# Altium footprint library SuperKnobLite.PcbLib: 29 footprints (part 1 of 2)
Each footprint in its own frame and in the unit in brackets; x right, y up, seen from the top. Pads: shape width x height; smd on the part's side, far side on the other; paste and mask are expansions set on the pad; w line width, h text height; cw(c..) or ccw(c..) is an arc to the next point about the centre after c.
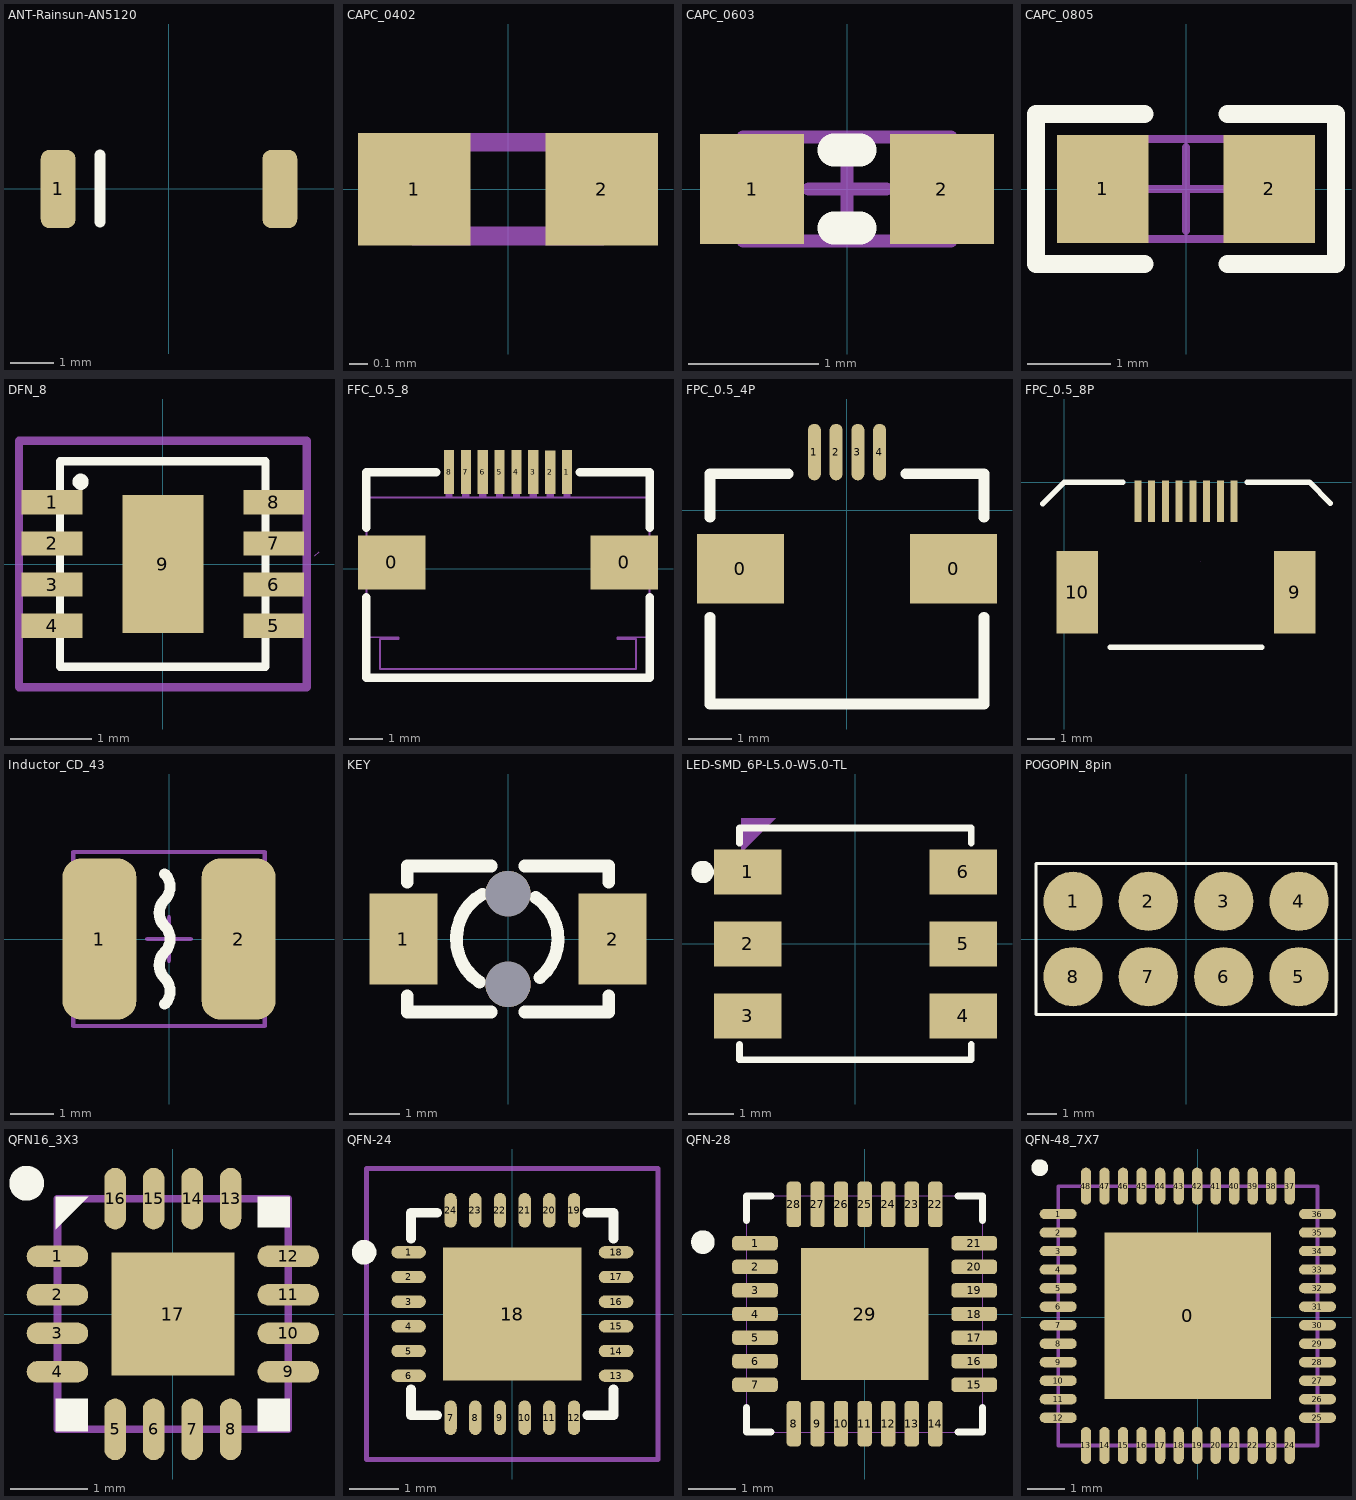
[diagram p0: the footprints below, top view; thin cyan lines are the x and y axes]

## ANT-Rainsun-AN5120 [mm] "选择焊盘"
height 4.3
pads (2):
  rrect50% 0.8x1.8 smd: 1(-2.54,0) ""(2.563,0)
Top Overlay:
  lines w0.254: -1.575,-0.762 -1.575,0.787
3D body "123.stp": height 1.32, standoff -0.01, extent -2.573,-0.911 2.542,0.935

## CAPC_0402 [mm]
pads (2):
  rect 0.6x0.6 smd mask+0.051: 1(-0.5,0) 2(0.5,0)
Mechanical 15:
  lines w0.1: -0.5,-0.25 0.5,-0.25 0.5,0.25 -0.5,0.25 -0.5,-0.25
3D body "CAPC1005(0402).STEP": height 0.5, standoff 0, extent -0.5,-0.25 0.5,0.25

## CAPC_0603 [mm]
pads (2):
  rect 0.8x0.85 smd: 1(-0.73,0) 2(0.73,0)
Top Overlay:
  lines w0.254: -0.1,-0.3 0.1,-0.3 ; -0.1,0.3 0.1,0.3
Mechanical 15:
  lines w0.1: -0.297,0 0.303,0 ; 0,-0.3 0,0.3 ; -0.8,-0.4 0.8,-0.4 0.8,0.4 -0.8,0.4 -0.8,-0.4
3D body "CAPC1608(0603).STEP": height 0.6, standoff 0, extent -0.8,-0.4 0.8,0.4

## CAPC_0805 [mm]
pads (2):
  rect 1.1x1.3 smd: 1(-1,0) 2(1,0)
Top Overlay:
  lines w0.22: -0.5,-0.9 -1.8,-0.9 -1.8,0.9 -0.5,0.9 ; 0.5,-0.9 1.8,-0.9 1.8,0.9 0.5,0.9
Mechanical 15:
  lines w0.1: -0.5,0 0.5,0 ; 0,-0.5 0,0.5 ; -1,-0.6 -1,0.6 1,0.6 1,-0.6 -1,-0.6
3D body "CAPC2012(0805).STEP": height 0.95, standoff 0, extent -1,-0.6 1,0.6

## DFN_8 [mm]
pads (9):
  rect 0.75x0.3 smd: 1(-1.37,0.762) 2(-1.37,0.254) 3(-1.37,-0.254) 4(-1.37,-0.762) 5(1.37,-0.762) 6(1.37,-0.254) 7(1.37,0.254) 8(1.37,0.762)
  rect 1.001x1.702 smd: 9(0,0)
Top Overlay:
  circle w0.1: c-1.016,1.016 r0.05
  lines w0.1: -1.27,1.016 -1.27,1.27 1.27,1.27 1.27,-1.27
  lines w0.102: -1.27,1.016 -1.27,-1.27 1.27,-1.27
Mechanical 3:
  lines w0.102: -1.778,-1.524 1.778,-1.524 1.778,1.524 -1.778,1.524 -1.778,-1.524
Mechanical 15:
  lines w0.003: 1.88,0.102 1.93,0.152
3D body "User Library-SHT3x.STEP": height 0.9, standoff -0.01, extent -1.254,-1.24 1.266,1.26

## FFC_0.5_8 [mm]
height 2
pads (10):
  rect 2x1.6 smd mask+0.051: 0(7.853,0.184) 0(14.753,0.184)
  rect 0.3x1.3 smd mask+0.05: 1(13.053,2.864) 2(12.555,2.862) 3(12.053,2.864) 4(11.553,2.864) 5(11.053,2.864) 6(10.553,2.864) 7(10.053,2.864) 8(9.553,2.864)
Top Overlay:
  lines w0.254: 7.101,-0.847 7.101,-3.236 15.505,-3.236 15.505,-0.847 ; 7.101,1.215 7.101,2.864 9.172,2.864 ; 13.434,2.864 15.505,2.864 15.505,1.215
Mechanical 15:
  region: 15.453,2.794 15.453,2.769 15.488,2.734 15.538,2.734 15.573,2.769 15.573,2.794 15.573,2.819 15.538,2.854 15.488,2.854 15.453,2.819 15.453,2.794
  region: 11.153,2.794 10.953,2.794 10.953,2.104 11.153,2.104
  region: 8.313,-0.356 7.103,-0.356 7.093,0.554 8.313,0.554
  region: 10.653,2.794 10.453,2.794 10.453,2.104 10.653,2.104
  region: 10.153,2.794 9.953,2.794 9.953,2.104 10.153,2.104
  region: 9.653,2.794 9.453,2.794 9.453,2.104 9.653,2.104
  region: 11.653,2.794 11.453,2.794 11.453,2.104 11.653,2.104
  region: 12.153,2.794 11.953,2.794 11.953,2.104 12.153,2.104
  region: 12.655,2.793 12.455,2.793 12.455,2.103 12.655,2.103
  region: 13.153,2.794 12.953,2.794 12.953,2.104 13.153,2.104
  region: 14.293,0.554 15.503,0.554 15.513,-0.356 14.293,-0.356
  lines w0.051: 7.103,-2.036 8.053,-2.036 8.053,-2.086 7.503,-2.086 7.503,-2.976 15.103,-2.976 15.103,-2.086 14.553,-2.086 14.553,-2.036 15.103,-2.036 15.503,-2.036 15.503,2.114 7.113,2.114 7.103,2.104 7.103,-2.036
3D body "HEADER-FPC-ZIF-SMD-Horizontal-0.5-8.stp": height 2.2, standoff -0.05, extent 7.248,-3.249 15.348,3.25

## FPC_0.5_4P [mm]
pads (6):
  rect 2x1.6 smd: 0(-2.45,-1.34) 0(2.45,-1.34)
  oval 0.3x1.3 smd: 1(-0.75,1.34) 2(-0.25,1.34) 3(0.25,1.34) 4(0.75,1.34)
Top Overlay:
  lines w0.25: -3.15,-4.46 -3.15,-2.46 ; -3.15,-0.16 -3.15,0.84 -1.35,0.84 ; 1.35,0.84 3.15,0.84 3.15,-0.16 ; 3.15,-4.46 3.15,-2.46
  lines w0.254: -3.15,-4.46 3.15,-4.46
3D body "1116584.stp": height 1.88, standoff -0.02, extent -3.75,-4.1 3.75,1.2

## FPC_0.5_8P [mm]
pads (10):
  rect 0.254x1.5 smd: 1(6.171,-0.696) 2(5.671,-0.696) 3(5.171,-0.696) 4(4.671,-0.696) 5(4.171,-0.696) 6(3.671,-0.696) 7(3.171,-0.696) 8(2.671,-0.696)
  rect 1.5x3 smd: 9(8.371,-3.996) 10(0.471,-3.996)
Top Overlay:
  lines w0.2: -0.789,-0.786 0.001,0.004 2.131,0.004 ; 1.671,-5.996 7.171,-5.996 ; 6.641,0.004 8.901,0.004 9.661,-0.756
Mechanical 15:
  lines w0.003: 4.944,-2.869 4.944,-2.869

## Inductor_CD_43 [mm]
pads (2):
  rrect50% 1.7x3.7 smd: 1(-1.6,0) 2(1.6,0)
Top Overlay:
  lines w0.254: -0.1,-1.5 ccw(c-0.4,-1.2) -0.1,-0.9 cw(c0.2,-0.6) -0.1,-0.3 ccw(c-0.4,0) -0.1,0.3 cw(c0.2,0.6) -0.1,0.9 ccw(c-0.4,1.2) -0.1,1.5
Mechanical 15:
  lines w0.1: -0.5,0 0.5,0 ; 0,-0.5 0,0.5 ; -2.2,-2 -2.2,2 2.2,2 2.2,-2 -2.2,-2
3D body "Inductor-CD-43.STEP": height 3.25, standoff 0, extent -2.201,-2 2.201,2

## KEY [mm]
pads (4):
  rect 1.35x1.8 smd: 1(-2.075,0) 2(2.075,0)
  round 0.9 hole 0.9 unplated: ""(0,-0.9) ""(0,0.9)
Top Overlay:
  lines w0.254: -2,-1.131 -2,-1.45 -0.331,-1.45 ; -2,1.131 -2,1.45 -0.331,1.45 ; -0.568,-0.852 cw(c0,0) -0.508,0.889 ; 0.331,-1.45 2,-1.45 2,-1.131 ; 0.331,1.45 2,1.45 2,1.131 ; 0.55,0.825 cw(c0,0) 0.635,-0.762

## LED-SMD_6P-L5.0-W5.0-TL [mm]
pads (6):
  rect 1.5x1 smd: 1(-2.4,1.6) 2(-2.4,0) 3(-2.4,-1.6) 4(2.4,-1.6) 5(2.4,0) 6(2.4,1.6)
Top Overlay:
  circle w0.25: c-3.4,1.6 r0.125
  lines w0.152: -2.576,-2.239 -2.576,-2.576 2.576,-2.576 2.576,-2.239 ; -2.576,2.239 -2.576,2.576 2.576,2.576 2.576,2.239
Mechanical 15:
  region: -1.778,2.794 -2.54,2.794 -2.54,2.032
  region: -2.26,1.7 -2.22,1.7 -2.22,1.62 -2.26,1.62
  region: -2.22,1.7 -2.18,1.7 -2.18,1.62 -2.22,1.62
  region: -2.18,1.74 -2.14,1.74 -2.14,1.62 -2.18,1.62
  region: -2.14,1.78 -2.1,1.78 -2.1,1.66 -2.14,1.66
  region: -2.1,1.78 -2.06,1.78 -2.06,1.18 -2.1,1.18
  region: -2.06,1.82 -2.02,1.82 -2.02,1.18 -2.06,1.18
  region: -2.02,1.82 -1.98,1.82 -1.98,1.18 -2.02,1.18
  region: -1.98,1.82 -1.94,1.82 -1.94,1.18 -1.98,1.18
3D body "User Library-WS2812S_.STEP": height 1.6, standoff 0, extent -2.7,-2.475 2.7,2.475

## POGOPIN_8pin [mm] "POGOPIN"
pads (8):
  round 2 smd: 1(-3.81,1.27) 2(-1.27,1.27) 3(1.27,1.27) 4(3.81,1.27) 5(3.81,-1.27) 6(1.27,-1.27) 7(-1.27,-1.27) 8(-3.81,-1.27)
Top Overlay:
  lines w0.102: -5.06,-2.54 -5.06,2.54 5.06,2.54 5.06,-2.54 -5.06,-2.54

## QFN16_3X3 [mm]
pads (17):
  oval 0.8x0.28 smd: 1(-1.5,0.75) 2(-1.5,0.25) 3(-1.5,-0.25) 4(-1.5,-0.75) 9(1.5,-0.75) 10(1.5,-0.25) 11(1.5,0.25) 12(1.5,0.75)
  oval 0.28x0.8 smd: 5(-0.75,-1.5) 6(-0.25,-1.5) 7(0.25,-1.5) 8(0.75,-1.5) 13(0.75,1.5) 14(0.25,1.5) 15(-0.25,1.5) 16(-0.75,1.5)
  rect 1.6x1.6 smd: 17(0,0)
Top Overlay:
  circle w0.254: c-1.9,1.7 r0.1
  rectangle: -1.525,-1.525 -1.1,-1.1
  rectangle: 1.1,-1.525 1.525,-1.1
  rectangle: 1.1,1.125 1.525,1.525
  region: -1.525,1.525 -1.1,1.525 -1.525,1.1
Mechanical 15:
  lines w0.1: -1.5,-1.5 -1.5,1.5 1.5,1.5 1.5,-1.5 -1.5,-1.5
3D body "QFN16 3x3.STEP": height 0.9, standoff 0, extent -1.517,-1.525 1.525,1.517

## QFN-24 [mm] "QFN, 24-Leads, Body 4.1x4.1mm (max), Pitch 0.50mm, IPC Low Density"
height 0.95
pads (25):
  oval 0.7x0.25 smd: 1(-2.1,1.25) 2(-2.1,0.75) 3(-2.1,0.25) 4(-2.1,-0.25) 5(-2.1,-0.75) 6(-2.1,-1.25) 13(2.1,-1.25) 14(2.1,-0.75) 15(2.1,-0.25) 16(2.1,0.25) 17(2.1,0.75) 18(2.1,1.25)
  oval 0.25x0.7 smd: 7(-1.25,-2.1) 8(-0.75,-2.1) 9(-0.25,-2.1) 10(0.25,-2.1) 11(0.75,-2.1) 12(1.25,-2.1) 19(1.25,2.1) 20(0.75,2.1) 21(0.25,2.1) 22(-0.25,2.1) 23(-0.75,2.1) 24(-1.25,2.1)
  rect 2.8x2.7 smd: 18(0,0)
Top Overlay:
  circle w0.25: c-3,1.25 r0.125
  lines w0.2: -2.05,-1.525 -2.05,-2.05 -1.525,-2.05 ; -2.05,1.525 -2.05,2.05 -1.525,2.05 ; 1.525,-2.05 2.05,-2.05 2.05,-1.525 ; 1.525,2.05 2.05,2.05 2.05,1.525
Mechanical 15:
  lines w0.1: -0.5,0 0.5,0 ; 0,-0.5 0,0.5 ; -2.95,-2.95 -2.95,2.95 2.95,2.95 2.95,-2.95 -2.95,-2.95
3D body "User Library-mpu-6050_qfn-24.stp": height 0.95, standoff 0.05, extent -2.02,-2.02 2.02,2.02

## QFN-28 [mil]
height 169.29
pads (29):
  rrect50% 38x12 smd mask+5: 1(-91.5,59.06) 2(-91.5,39.37) 3(-91.5,19.68) 4(-91.5,0) 5(-91.5,-19.68) 6(-91.5,-39.37) 7(-91.5,-59.06) 15(91.5,-59.06) 16(91.5,-39.37) 17(91.5,-19.68) 18(91.5,0) 19(91.5,19.68) 20(91.5,39.37) 21(91.5,59.06)
  rrect50% 12x38 smd mask+5: 8(-59.06,-91.5) 9(-39.37,-91.5) 10(-19.68,-91.5) 11(0,-91.5) 12(19.68,-91.5) 13(39.37,-91.5) 14(59.06,-91.5) 22(59.06,91.5) 23(39.37,91.5) 24(19.68,91.5) 25(0,91.5) 26(-19.68,91.5) 27(-39.37,91.5) 28(-59.06,91.5)
  rect 106.3x110.24 smd: 29(0,0)
Top Overlay:
  circle w9.84: c-135,60 r4.92
  lines w6: -98.5,-78.16 -98.5,-98.5 -78.16,-98.5 ; -98.5,78.16 -98.5,98.5 -78.16,98.5 ; 78.16,-98.5 98.5,-98.5 98.5,-78.16 ; 78.16,98.5 98.5,98.5 98.5,78.16
Mechanical 1:
  lines w0: -98.5,-98.5 -98.5,98.5 98.5,98.5 98.5,-98.5 -98.5,-98.5 ; -98.5,-65.06 -98.5,-53.06 -98.5,-65.06 ; -98.5,-45.37 -98.5,-33.37 -98.5,-45.37 ; -98.5,-25.68 -98.5,-13.69 -98.5,-25.68 ; -98.5,-6 -98.5,6 -98.5,-6 ; -98.5,13.69 -98.5,25.68 -98.5,13.69 ; -98.5,33.37 -98.5,45.37 -98.5,33.37 ; -98.5,53.06 -98.5,65.06 -98.5,53.06 ; -65.06,-98.5 -53.06,-98.5 -65.06,-98.5 ; -65.06,98.5 -53.06,98.5 -65.06,98.5 ; -45.37,-98.5 -33.37,-98.5 -45.37,-98.5 ; -45.37,98.5 -33.37,98.5 -45.37,98.5 ; -25.68,-98.5 -13.69,-98.5 -25.68,-98.5 ; -25.68,98.5 -13.69,98.5 -25.68,98.5 ; -6,-98.5 6,-98.5 -6,-98.5 ; -6,98.5 6,98.5 -6,98.5 ; 13.69,-98.5 25.68,-98.5 13.69,-98.5 ; 13.69,98.5 25.68,98.5 13.69,98.5 ; 33.37,-98.5 45.37,-98.5 33.37,-98.5 ; 33.37,98.5 45.37,98.5 33.37,98.5 ; 53.06,-98.5 65.06,-98.5 53.06,-98.5 ; 53.06,98.5 65.06,98.5 53.06,98.5 ; 98.5,-65.06 98.5,-53.06 98.5,-65.06 ; 98.5,-45.37 98.5,-33.37 98.5,-45.37 ; 98.5,-25.68 98.5,-13.69 98.5,-25.68 ; 98.5,-6 98.5,6 98.5,-6 ; 98.5,13.69 98.5,25.68 98.5,13.69 ; 98.5,33.37 98.5,45.37 98.5,33.37 ; 98.5,53.06 98.5,65.06 98.5,53.06
3D body "321.stp": height 35.43, standoff 0, extent -98.5,-98.5 98.35,98.35

## QFN-48_7X7 [mm]
height 4.3
pads (49):
  rect 4.5x4.5 smd: 0(-0.268,0.042)
  oval 1x0.28 smd: 1(-3.768,2.792) 2(-3.768,2.292) 3(-3.768,1.792) 4(-3.768,1.292) 5(-3.768,0.792) 6(-3.768,0.292) 7(-3.768,-0.208) 8(-3.768,-0.708) 9(-3.768,-1.208) 10(-3.768,-1.708) 11(-3.768,-2.208) 12(-3.768,-2.708) 25(3.232,-2.708) 26(3.232,-2.208) 27(3.232,-1.708) 28(3.232,-1.208) 29(3.232,-0.708) 30(3.232,-0.208) 31(3.232,0.292) 32(3.232,0.792) 33(3.232,1.292) 34(3.232,1.792) 35(3.232,2.292) 36(3.232,2.792)
  oval 0.28x1 smd: 13(-3.018,-3.458) 14(-2.518,-3.458) 15(-2.018,-3.458) 16(-1.518,-3.458) 17(-1.018,-3.458) 18(-0.518,-3.458) 19(-0.018,-3.458) 20(0.482,-3.458) 21(0.982,-3.458) 22(1.482,-3.458) 23(1.982,-3.458) 24(2.482,-3.458) 37(2.482,3.542) 38(1.982,3.542) 39(1.482,3.542) 40(0.982,3.542) 41(0.482,3.542) 42(-0.018,3.542) 43(-0.518,3.542) 44(-1.018,3.542) 45(-1.518,3.542) 46(-2.018,3.542) 47(-2.518,3.542) 48(-3.018,3.542)
Top Overlay:
  circle w0.254: c-4.268,4.042 r0.1
Mechanical 15:
  lines w0.1: -3.768,-3.458 -3.768,3.542 3.232,3.542 3.232,-3.458 -3.768,-3.458
3D body "QFN48 7x7.STEP": height 0.78, standoff -0.02, extent -3.788,-3.458 3.232,3.562